# EAGLE library part MCP6002-E/SN (library MCP6002)
Low-Power Op Amp
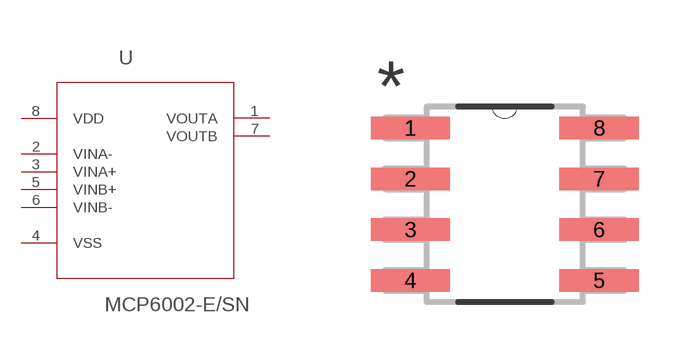
[diagram p0: symbol with the pads of SOIC127P600X175-8N; footprint SOIC127P600X175-8N]

Designator prefix -

## MCP6002-E/SN (Availability: Unavailable; Description: MCP6002 Series 6 V 1 MHz SMT Low-Power Operational Amplifier - SOIC-8; MF: Microchip; MP: MCP6002-E/SN; Package: SOIC-8 Microchip; Price: None)  [SOIC127P600X175-8N]
1  VOUTA  out
2  VINA-  in
3  VINA+  in
4  VSS  pwr
5  VINB+  in
6  VINB-  in
7  VOUTB  out
8  VDD  pwr

## Footprint SOIC127P600X175-8N (pad centres in mm)
smd 1.981 x 0.559: 1 -2.362,1.905; 2 -2.362,0.635; 3 -2.362,-0.635; 4 -2.362,-1.905; 5 2.362,-1.905; 6 2.362,-0.635; 7 2.362,0.635; 8 2.362,1.905